# EAGLE library part MIC29152WU (library MIC29152WU)
MICREL SEMICONDUCTOR - MIC29152WU - IC, V REG, LDO 1.5A ADJ, SMD, 29152 Source: Datasheet <chrome-extension://efaidnbmnnnibpcajpcglclefindmkaj/https://www.mouser.in/datasheet/2/268/MIC2915x_30x_50x_75x_High_Current_Low_Dropout_Regu-3103149.pdf>
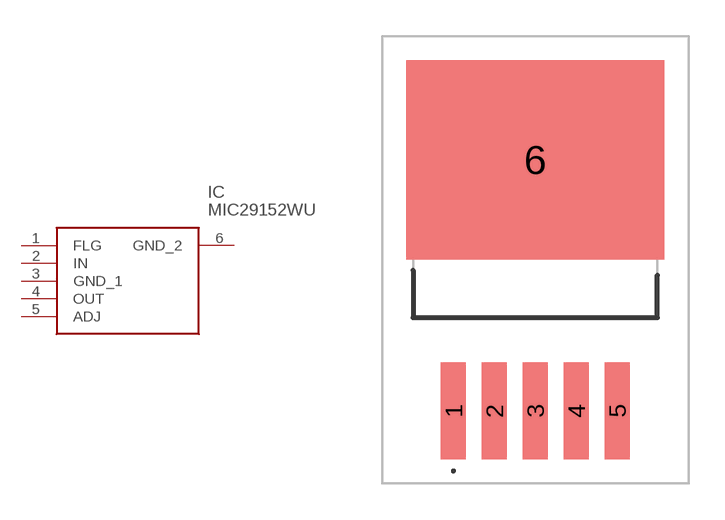
[diagram p0: symbol with the pads of MIC29152WU; footprint MIC29152WU]

Designator prefix IC

## MIC29152WU (Description: MICREL SEMICONDUCTOR - MIC29152WU - IC, V REG, LDO 1.5A ADJ, SMD, 29152; Height: 5.08mm; Manufacturer_Name: Microchip; Manufacturer_Part_Number: MIC29152WU; Mouser_Part_Number: 998-MIC29152WU; Mouser_Price-Stock: https://www.mouser.co.uk/ProductDetail/Microchip-Technology/MIC29152WU?qs=kh6iOki%2FeLHeF19%2FNG7LNg%3D%3D)  [MIC29152WU]
1  FLG
2  IN
3  GND_1
4  OUT
5  ADJ
6  GND_2

## Footprint MIC29152WU (pad centres in mm)
TO252-5LD-PL-1
smd 1.041 x 4.039: 1 -3.404,-6.452; 2 -1.702,-6.452; 3 0,-6.452; 4 1.702,-6.452; 5 3.404,-6.452
smd 10.744 x 8.306: 6 0,4.001